# EAGLE library part CON_02X03 (library MF_Connectors)
Library: MF_Connectors Description: Header Connector with 6 Positions and 02 Rows. Use the LABEL Attribute to label the pin on the schematic and PCB. You can remove the attributes on the PCB by using the SMASH function on the part and then deleting the text.
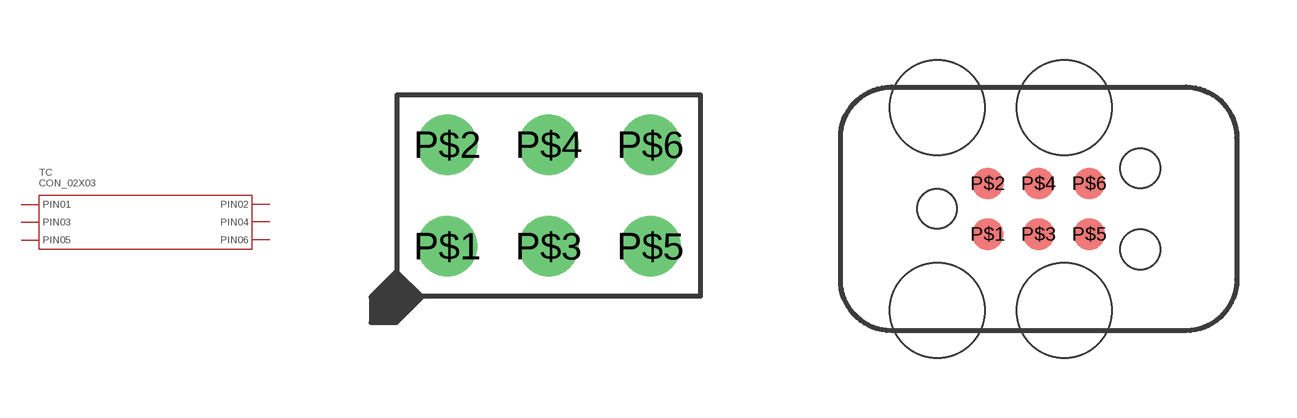
[diagram p37: symbol with the pads of PTH_2.54MM_02X03; footprints PTH_2.54MM_02X03, TC2030-IDC-FP]

Designator prefix TC

## CON_02X03_PTH_2.54MM (HOUSEPART: YES; MPN: MF-CON-2.54mm-2x3; POPULATE: 1; URL: https://factory.macrofab.com/part/MF-CON-2.54mm-2x3; VALUE: MF-CON-2.54mm-2x3)  [PTH_2.54MM_02X03]
P$1  PIN1
P$2  PIN2
P$3  PIN3
P$4  PIN4
P$5  PIN5
P$6  PIN6

## CON_02X03_TC2030-IDC (HOUSEPART: NO; MPN: TC2030-IDC; POPULATE: 0; URL: http://www.tag-connect.com/TC2030-IDC; VALUE: TC2030-IDC), CON_02X03_AVRISP_TC2030-IDC (HOUSEPART: NO; LABEL01: MISO; LABEL02: VCC; LABEL03: SCK; LABEL04: MOSI; LABEL05: RST; LABEL06: GND; MPN: TC2030-IDC; POPULATE: 0; URL: http://www.tag-connect.com/AVRISP; VALUE: TC2030-IDC), CON_02X03_FTDI-TTL-232R_TC2030-IDC (HOUSEPART: NO; LABEL01: VCC; LABEL02: CTS/TMS; LABEL03: RX/TDI; LABEL04: TX/TCLK; LABEL05: GND; LABEL06: RTS/TDO; MPN: TC2030-FTDI-TTL-232R; POPULATE: 0; URL: http://www.tag-connect.com/TC2030-FTDI; VALUE: TC2030-FTDI-TTL-232R), CON_02X03_PICKIT_TC2030-IDC (HOUSEPART: NO; LABEL01: !MCLR; LABEL02: VDD Target; LABEL03: GND; LABEL04: PGD; LABEL05: PGC; LABEL06: PGM; MPN: TC2030-PKT; POPULATE: 0; URL: http://www.tag-connect.com/TC2030-PKT; VALUE: TC2030-PKT), CON_02X03_SILABS2TC_TC2030-IDC (HOUSEPART: NO; LABEL01: GND; LABEL02: VCC; LABEL03: C2CK; LABEL04: C2D; LABEL05: C2CK_PS; LABEL06: C2D_PS; MPN: TC2030-IDC; POPULATE: 0; URL: http://www.tag-connect.com/TC2030-IDC; VALUE: TC2030-IDC), CON_02X03_SWD2TC_TC2030-IDC (HOUSEPART: NO; LABEL01: VCC; LABEL02: GND; LABEL03: SWDIO; LABEL04: SWCLK; LABEL05: MCU_VDD; LABEL06: !RST; MPN: TC2030-IDC; POPULATE: 0; URL: http://www.tag-connect.com/TC2030-IDC; VALUE: TC2030-IDC)  [TC2030-IDC-FP]
Pads as for PTH_2.54MM_02X03

## CON_02X03_TC2030-IDC-NL (HOUSEPART: NO; MPN: TC2030-IDC-NL; POPULATE: 0; URL: http://www.tag-connect.com/TC2030-IDC-NL; VALUE: TC2030-IDC-NL), CON_02X03_AVRISP_TC2030-IDC-NL (HOUSEPART: NO; LABEL01: MISO; LABEL02: VCC; LABEL03: SCK; LABEL04: MOSI; LABEL05: RST; LABEL06: GND; MPN: TC2030-IDC-NL; POPULATE: 0; URL: http://www.tag-connect.com/AVRISP; VALUE: TC2030-IDC-NL), CON_02X03_FTDI-TTL-232R_TC2030-IDC-NL (HOUSEPART: NO; LABEL01: VCC; LABEL02: CTS/TMS; LABEL03: RX/TDI; LABEL04: TX/TCLK; LABEL05: GND; LABEL06: RTS/TDO; MPN: TC2030-FTDI-TTL-232R-NL; POPULATE: 0; URL: http://www.tag-connect.com/TC2030-FTDI; VALUE: TC2030-FTDI-TTL-232R-NL), CON_02X03_PICKIT_TC2030-IDC-NL (HOUSEPART: NO; LABEL01: !MCLR; LABEL02: VDD Target; LABEL03: GND; LABEL04: PGD; LABEL05: PGC; LABEL06: PGM; MPN: TC2030-PKT-NL; POPULATE: 0; URL: http://www.tag-connect.com/TC2030-PKT-NL; VALUE: TC2030-PKT-NL), CON_02X03_SILABS2TC_TC2030-IDC-NL (HOUSEPART: NO; LABEL01: GND; LABEL02: VCC; LABEL03: C2CK; LABEL04: C2D; LABEL05: C2CK_PS; LABEL06: C2D_PS; MPN: TC2030-IDC-NL; POPULATE: 0; URL: http://www.tag-connect.com/TC2030-IDC-NL; VALUE: TC2030-IDC-NL), CON_02X03_SWD2TC_TC2030-IDC-NL (HOUSEPART: NO; LABEL01: VCC; LABEL02: GND; LABEL03: SWDIO; LABEL04: SWCLK; LABEL05: MCU_VDD; LABEL06: !RST; MPN: TC2030-IDC-NL; POPULATE: 0; URL: http://www.tag-connect.com/TC2030-IDC-NL; VALUE: TC2030-IDC-NL)  [TC2030-IDC-NL]
Pads as for PTH_2.54MM_02X03

## Footprint PTH_2.54MM_02X03 (pad centres in mm)
Description: Package for 2.54MM Pitch Header 2 Row 6 Position. Based on 4UCON 00989.
drill 1: P$1 -2.54,-1.27; P$2 -2.54,1.27; P$3 0,-1.27; P$4 0,1.27; P$5 2.54,-1.27; P$6 2.54,1.27

## Footprint TC2030-IDC-FP (pad centres in mm)
Description: Package for Tag Connect TC2030-FP style MacroFab House Part: No URL: http://www.tag-connect.com/TC2030-IDC
smd 0.787 x 0.787: P$1 -1.27,-0.635; P$2 -1.27,0.635; P$3 0,-0.635; P$4 0,0.635; P$5 1.27,-0.635; P$6 1.27,0.635
hole 0.991 at 2.54,1.016
hole 0.991 at 2.54,-1.016
hole 0.991 at -2.54,0
hole 2.375 at -2.54,2.54
hole 2.375 at 0.635,2.54
hole 2.375 at 0.635,-2.54
hole 2.375 at -2.54,-2.54

## Footprint TC2030-IDC-NL (pad centres in mm)
Description: Package for Tag Connect TC2030-NL style MacroFab House Part: No URL: http://www.tag-connect.com/TC2030-IDC-NL
smd 0.787 x 0.787: P$1 -1.27,-0.635; P$2 -1.27,0.635; P$3 0,-0.635; P$4 0,0.635; P$5 1.27,-0.635; P$6 1.27,0.635
hole 0.991 at 2.54,1.016
hole 0.991 at 2.54,-1.016
hole 0.991 at -2.54,0